# EAGLE library part TPD3S014DBVR (library misc)
Current Switch Regulator High-Side 500mA SOT-23-6
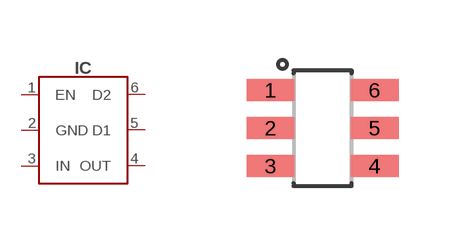
[diagram p34: symbol with the pads of SOT26; footprint SOT26]

Designator prefix IC

## TPD3S014DBVR-SOT23-6 (DIGIKEY#: 296-38835-1-ND; LCSC#: C87384; MANF: Texas Instruments; MANF#: TPD3S014DBVR)  [SOT26]
1  EN
2  GND
3  IN
4  OUT
5  D1
6  D2

## Footprint SOT26 (pad centres in mm)
smd 1.2 x 0.55: 1 -1.3,0.95; 2 -1.3,0; 3 -1.3,-0.95; 4 1.3,-0.95; 5 1.3,0; 6 1.3,0.95